# Altium schematic symbol library CAP_CER_56pF_50V_0402.SchLib: 1 symbol
Pins are listed as number, name and electrical type; pins without a type are passive.

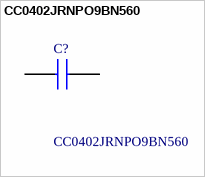
[diagram p0: symbol CC0402JRNPO9BN560]

## CC0402JRNPO9BN560
designator C?
Cap Ceramic 56pF 50V C0G 5% Pad SMD 0402 125C T/R; Manufacturer_Name: KEMET; Geometry.Height: 0.55mm; Manufacturer_Part_Number: CC0402JRNPO9BN560; Mouser Part Number: *; Mouser Price/Stock: *; Arrow Part Number: CC0402JRNPO9BN560; Arrow Price/Stock: https://www.arrow.com/en/products/cc0402jrnpo9bn560/yageo; Datasheet Link: https://www.yageo.com/upload/media/product/productsearch/datasheet/mlcc/UPY-GP_NP0_16V-to-50V_18.pdf
footprint CAPC1005X55N
pins: 1, 2